# Altium schematic symbol library Connectors.SchLib: 2 symbols
Pins are listed as number, name and electrical type; pins without a type are passive.

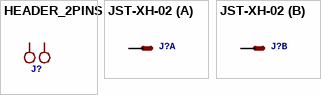
[diagram p0: symbols HEADER_2PINS to JST-XH-02]

## HEADER_2PINS
designator J?
2 Pins male header; Pin spacing: 2.54mm; Price: 0.01
footprint HEADER_2PINS
pins: 1, 2

## JST-XH-02
designator J?
2 Pins male XH header; Price: 0.1
footprint JST-XH-02
part A pins: 2 S
part B pins: 1 S